# Altium footprint library 204-121.PcbLib: 2 footprints
Each footprint in its own frame and in the unit in brackets; x right, y up, seen from the top. Pads: shape width x height; smd on the part's side, far side on the other; paste and mask are expansions set on the pad; w line width, h text height; cw(c..) or ccw(c..) is an arc to the next point about the centre after c.
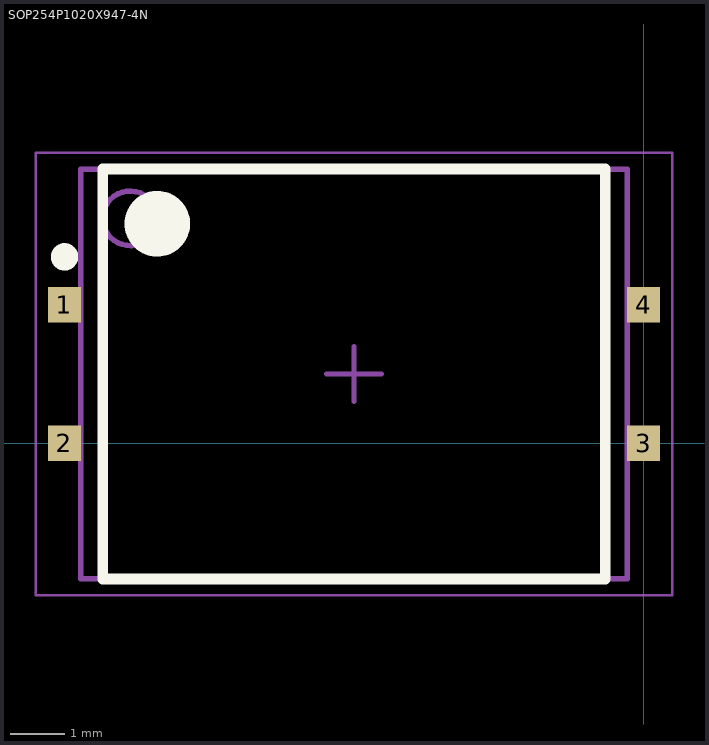
[diagram p0: the footprints below, top view; thin cyan lines are the x and y axes]

## PCBComponent_1 [mm]

## SOP254P1020X947-4N [mm] "SOP, 4-Leads, Body 7.26x9.78mm, Pitch 2.54mm, IPC Medium Density"
height 9.47
pads (4):
  rect 0.6x0.65 smd: 1(-10.6,2.54) 2(-10.6,0) 3(0,0) 4(0,2.54)
Top Overlay:
  circle w0.25: c-10.6,3.415 r0.125
  circle w0.6: c-8.9,4.02 r0.3
  lines w0.2: -9.9,-2.48 -9.9,5.02 -0.7,5.02 -0.7,-2.48 -9.9,-2.48
Mechanical 13:
  circle w0.1: c-9.4,4.12 r0.5
  lines w0.1: -10.3,-2.48 -10.3,5.02 -0.3,5.02 -0.3,-2.48 -10.3,-2.48
Mechanical 15:
  lines w0.05: -11.125,-2.78 -11.125,5.32 0.525,5.32 0.525,-2.78 -11.125,-2.78
  lines w0.1: -5.8,1.27 -4.8,1.27 ; -5.3,0.77 -5.3,1.77
3D body: height 9.47, standoff 1.14, extent -10.3,-2.48 -0.3,5.02